# Altium integrated library Altium_library_module_kit.IntLib: 11 symbols
Pins are listed as number, name and electrical type; pins without a type are passive.

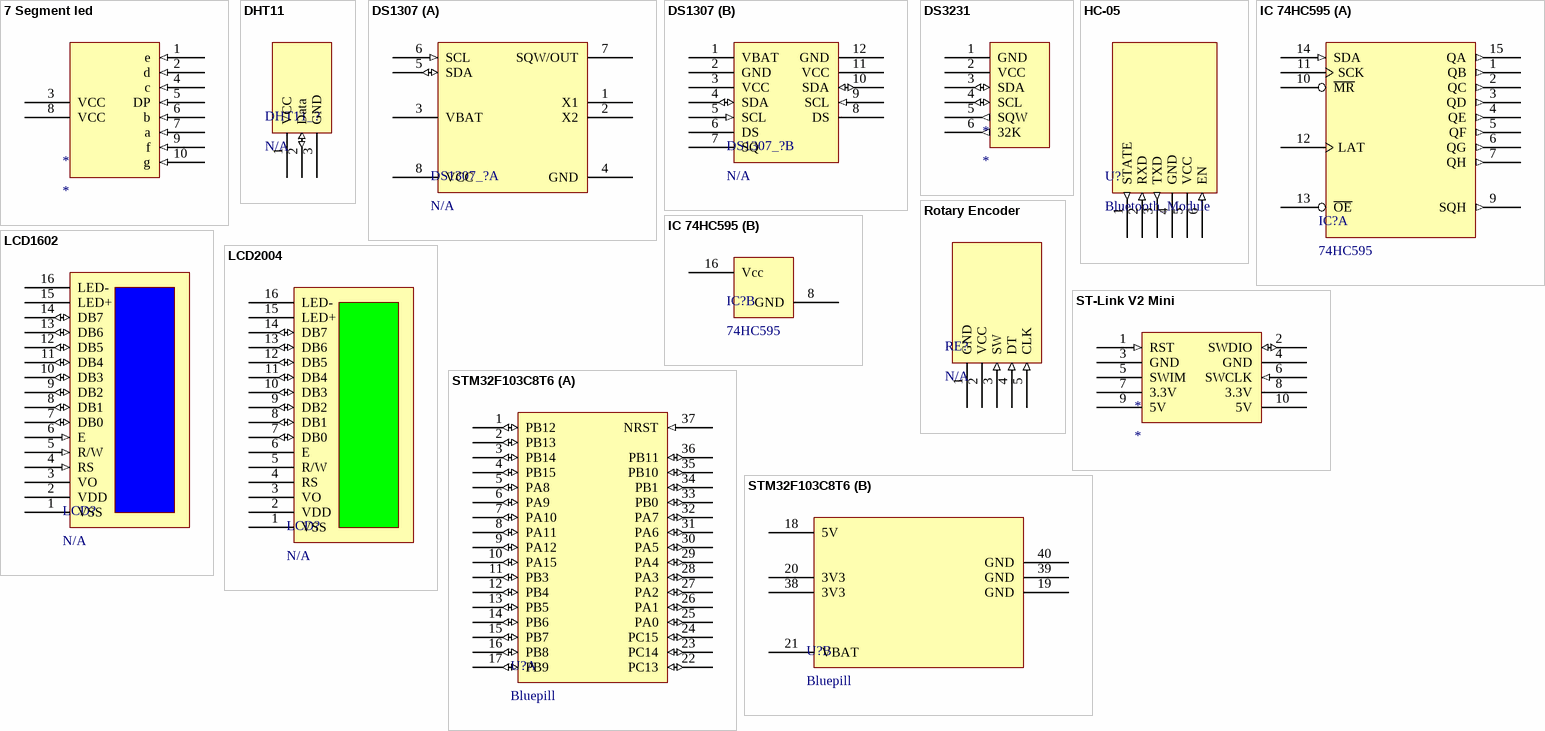
[diagram p0: symbols 7 Segment led to STM32F103C8T6]

## 7 Segment led
designator *
Manufacturer: Lumex Opto/Components Inc.; Product Status: Active; Number of Characters: 1; Digit/Alpha Size: 0.56" (14.22mm); Display Type: 7-Segment; Common Pin: Common Anode; Voltage - Forward (Vf) (Typ): 1.8V; Current - Test: 10mA; Millicandela Rating: 12mcd; Wavelength - Peak: 660nm; Power Dissipation (Max): 100mW; Base Product Number: LDS-A516; Package: Bulk; Size / Dimension: 0.748" H x 0.496" W x 0.315" D (19.00mm x 12.60mm x 8.00mm); Color: Red; Package / Case: 10-DIP (0.600", 15.24mm)
footprint 7_Segment_Led
pins: 1 e (in), 2 d (in), 3 VCC (power), 4 c (in), 5  DP (in), 6 b (in), 7 a (in), 8 VCC (power), 9 f (in), 10 g (in)

## DHT11
designator DHT11_?, comment N/A
Temperature Humidity Sensor 16bi; Manufacturer: UNIVERSAL-SOLDER Electronics Ltd; Product Status: Active; Sensor Type: Humidity, Temperature; Output Type: Digital; Output: 16b; Accuracy: ±5% RH; Voltage - Supply: 3.5V ~ 5.5V; ComponentLink1Description: Datasheet; ComponentLink1URL: https://www.mouser.com/datasheet/2/758/DHT11-Technical-Data-Sheet-Translated-Version-1143054.pdf; ComponentLink2Description: Thegioiic; ComponentLink2URL: https://www.thegioiic.com/dht11-mach-cam-bien-nhiet-do-va-do-am-den; Package: Bulk; Mounting Type: Through Hole; Package / Case: 3-SIP Module
footprint DHT11
pins: 1 VCC (power), 2 Data (io), 3 GND (power)

## DS1307
designator DS1307_?, comment N/A
IC RTC CLOCK/CALENDAR I2C 8DIP; Manufacturer: Analog Devices Inc./Maxim Integrated; Product Status: Obsolete; Memory Size: 56B; Time Format: HH:MM:SS (12/24 hr); Date Format: YY-MM-DD-dd; Interface: I²C, 2-Wire Serial; Voltage - Supply: 4.5V ~ 5.5V; Voltage - Supply, Battery: 2V ~ 3.5V; Current - Timekeeping (Max): 200µA @ 5V; Base Product Number: DS1307; Package: Tube; Type: Clock/Calendar; Features: Leap Year, NVSRAM, Square Wave Output; Operating Temperature: 0°C ~ 70°C; Mounting Type: Through Hole; Package / Case: 8-DIP (0.300", 7.62mm); Supplier Device Package: 8-PDIP; ComponentLink1Description: Datasheet; ComponentLink1URL: https://www.sparkfun.com/datasheets/Components/DS1307.pdf; ComponentLink2Description: Thegioiic; ComponentLink2URL: https://www.thegioiic.com/ds1307-ic-rtc-clock-calendar-56b-8-dip
footprint DS1307
part A pins: 1 X1 (oc), 2 X2 (oc), 3 VBAT (power), 4 GND (power), 5 SDA (io), 6 SCL (in), 7 SQW/OUT (oc), 8 VCC (power)
part B pins: 1 VBAT (power), 2 GND (power), 3 VCC (power), 4 SDA (io), 5 SCL (in), 6 DS (oc), 7 SQ (oc), 8 DS (oc), 9 SCL (in), 10 SDA (io), 11 VCC (power), 12 GND (power)

## DS3231
designator *
DS3231 Real Time Clock (RTC) Clock Timing Raspberry Pi Pico Platform Evaluation Expansion Board; Manufacturer: Analog Devices Inc./Maxim Integrated; Product Status: Active; Time Format: HH:MM:SS (12/24 hr); Date Format: YY-MM-DD-dd; Interface: I²C, 2-Wire Serial; Voltage - Supply: 2.3V ~ 5.5V; Current - Timekeeping (Max): 130µA ~ 200µA @ 3.63V ~ 5.5V; Package: Tape & Reel (TR); Type: Clock/Calendar; Features: Alarm, Leap Year, Square Wave Output; Voltage - Supply, Battery: 2.3V ~ 5.5V; Operating Temperature: -40°C ~ 85°C; Mounting Type: Surface Mount; Package / Case: 8-SOIC (0.154", 3.90mm Width); Supplier Device Package: 8-SOIC; Base Product Number: DS3231
footprint DS3231
pins: 1 GND (power), 2 VCC (power), 3 SDA (io), 4 SCL (io), 5 SQW (out), 6 32K (out)

## HC-05
designator U?, comment Bluetooth_Module
HC05 Bluetooth RF Grove Platform Evaluation Expansion Board; Manufacturer: Seeed Technology Co., Ltd; Product Status: Active; Contents: Board(s), Cable(s); Package: Bulk; Platform: Grove; Type: RF; Function: Bluetooth; Utilized IC / Part: HC05; ComponentLink1Description: Datasheet; ComponentLink1URL: https://raw.githubusercontent.com/SeeedDocument/Grove-Serial_Bluetooth_v3.0/master/res/Bluetooth_module.pdf
footprint HC05
pins: 1 STATE (out), 2 RXD (in), 3 TXD (out), 4 GND (power), 5 VCC (power), 6 EN (in)

## IC 74HC595
designator IC?, comment 74HC595
The 74HC595 is an high speed CMOS device.; Manufacturer: Texas Instruments; Product Status: Active; Logic Type: Shift Register; Output Type: Tri-State; Number of Elements: 1; Number of Bits per Element: 8; Function: Serial to Parallel, Serial; Voltage - Supply: 2V ~ 6V; Series: 74HC; Operating Temperature: -40°C ~ 125°C; Mounting Type: Through Hole; Package / Case: 16-DIP (0.300", 7.62mm); Supplier Device Package: 16-PDIP; Base Product Number: 74HC595; ComponentLink1Description: Datasheet; ComponentLink1URL: https://www.ti.com/general/docs/suppproductinfo.tsp?distId=10&gotoUrl=https%3A%2F%2Fwww.ti.com%2Flit%2Fgpn%2Fcd74hc595
footprint IC74HC595
part A pins: 1 QB (out), 2 QC (out), 3 QD (out), 4 QE (out), 5 QF (out), 6 QG (out), 7 QH (out), 9 SQH (out), 10 ~{MR} (hiz), 11 SCK (hiz), 12 LAT (oe), 13 ~{OE} (oe), 14 SDA (in), 15 QA (out)
part B pins: 8 GND (power), 16 Vcc (power)

## LCD1602
designator LCD?, comment N/A
BLUE LCD 1602 2x16 Character Mat; Manufacturer: UNIVERSAL-SOLDER Electronics Ltd; Product Status: Active; Number of Characters: 32; Display Format: 16 x 2; Character Format: 5 x 8 Dots; Display Type: STN - Super-Twisted Nematic; Character Size: 5.15mm H x 2.90mm W; Outline L x W x H: 80.00mm x 36.00mm x 11.00mm; Viewing Area: 55.70mm L x 11.00mm W; Backlight: LED - Yellow/Green; Voltage - Supply: 4.5V ~ 5.5V; Dot Size: 0.55mm W x 0.65mm H; Controller Type: HD44780; Text Color: White; Package: Bag; Operating Temperature: -20°C ~ 70°C; Background Color: Blue; ComponentLink1Description: Hshop; ComponentLink1URL: https://hshop.vn/products/lcd-text-lcd1602-xanh-lo; ComponentLink2Description: Datasheet; ComponentLink2URL: https://www.waveshare.com/datasheet/LCD_en_PDF/LCD1602.pdf
footprint LCD1602
pins: 1 VSS (power), 2 VDD (power), 3 VO (oc), 4 RS (in), 5 R/W (in), 6 E (in), 7 DB0 (io), 8 DB1 (io), 9 DB2 (io), 10 DB3 (io), 11 DB4 (io), 12 DB5 (io), 13 DB6 (io), 14 DB7 (io), 15 LED+ (power), 16 LED- (power)

## LCD2004
designator LCD?, comment N/A
20X4 CHARACTER LCD STN YG; Manufacturer: Gi Far technology Co., Ltd; Product Status: Active; Number of Characters: 80; Character Format: 5 x 8 Dots; Display Type: STN - Y/G; Display Mode: Transflective; Character Size: 4.75mm H x 2.95mm W; Outline L x W x H: 98.00mm x 60.00mm x 13.30mm; Viewing Area: 76.00mm L x 25.20mm W; Backlight: LED - Yellow/Green; Voltage - Supply: 5V; Dot Size: 0.55mm W x 0.55mm H; Interface: Parallel; Controller Type: ST7066U-0T; Text Color: Black; Background Color: Yellow/Green; Package: Tape & Box (TB); Display Format: 20 x 4; Operating Temperature: -20°C ~ 70°C; ComponentLink1Description: Datasheet; ComponentLink1URL: https://uk.beta-layout.com/download/rk/RK-10290_410.pdf; ComponentLink2Description: Hshop (Blue Backlight); ComponentLink2URL: https://hshop.vn/products/lcd-text-lcd2004-xanh-duong; ComponentLink3Description: Hshop (Green Backlight); ComponentLink3URL: https://hshop.vn/products/lcd-text-lcd2004-xanh-lo
footprint LCD2004
pins: 1 VSS (power), 2 VDD (power), 3 VO (oc), 4 RS (oc), 5 R/W (oc), 6 E (oe), 7 DB0 (io), 8 DB1 (io), 9 DB2 (io), 10 DB3 (io), 11 DB4 (io), 12 DB5 (io), 13 DB6 (io), 14 DB7 (io), 15 LED+ (power), 16 LED- (power)

## Rotary Encoder
designator RE?, comment N/A
ROTARY ENCODER MECHANICAL 16PPR; Manufacturer: CUI Devices; Product Status: Obsolete; Output Type: Quadrature (Incremental); Pulses per Revolution: 16; Voltage - Supply: 5V; Actuator Type: 6mm Dia Flatted End; Detent: Yes; Rotational Life (Cycles Min): 500K; Series: RME12; Encoder Type: Mechanical; Built in Switch: Yes; Mounting Type: Panel, PCB Through Hole; Orientation: Vertical; Termination Style: PC Pin; ComponentLink1Description: Hshop; ComponentLink1URL: https://hshop.vn/products/mach-volume-xoay-encoder; ComponentLink2Description: Datasheet; ComponentLink2URL: http://handsontec.com/dataspecs/module/Rotary%20Encoder.pdf
footprint Rotary_Encoder
pins: 1 GND (power), 2 VCC (power), 3 SW (in), 4 DT (in), 5 CLK (in)

## ST-Link V2 Mini
designator *
pins: 1 RST (in), 2 SWDIO (io), 3 GND (power), 4 GND (power), 5 SWIM (oc), 6 SWCLK (in), 7 3.3V (power), 8 3.3V (power), 9 5V (power), 10 5V (power)

## STM32F103C8T6
designator U?, comment Bluepill
STM32F103C8T6, mbed-Enabled Development Bluepill STM32F1 ARM® Cortex®-M3 MCU 32-Bit Embedded Evaluation Board; Manufacturer: STMicroelectronics; Core Size: 32-Bit Single-Core; Speed: 72MHz; Connectivity: CANbus, I²C, IrDA, LINbus, SPI, UART/USART, USB; Peripherals: DMA, Motor Control PWM, PDR, POR, PVD, PWM, Temp Sensor, WDT; Number of I/O: 37; Program Memory Size: 64KB (64K x 8); Program Memory Type: FLASH; RAM Size: 20K x 8; Voltage - Supply (Vcc/Vdd): 2V ~ 3.6V; Data Converters: A/D 10x12b; Oscillator Type: Internal; Series: STM32F1; Core Processor: ARM® Cortex®-M3; Operating Temperature: 40°C ~ 85°C (TA); Mounting Type: Surface Mount; Package / Case: 48-LQFP; Base Product Number: STM32F103; ComponentLink1Description: MPU; ComponentLink1URL: https://www.thegioiic.com/stm32f103c8t6; ComponentLink2Description: Kit Bluepill; ComponentLink2URL: https://hshop.vn/products/kit-ra-chon-stm32f103c8t6; ComponentLink3Description: Datasheet; ComponentLink3URL: https://www.st.com/resource/en/datasheet/cd00161566.pdf
footprint STM32F103C8T6
part A pins: 1 PB12 (io), 2 PB13 (io), 3 PB14 (io), 4 PB15 (io), 5 PA8 (io), 6 PA9 (io), 7 PA10 (io), 8 PA11 (io), 9 PA12 (io), 10 PA15 (io), 11 PB3 (io), 12 PB4 (io), 13 PB5 (io), 14 PB6 (io), 15 PB7 (io), 16 PB8 (io), 17 PB9 (io), 22 PC13 (io), 23 PC14 (io), 24 PC15 (io), 25 PA0 (io), 26 PA1 (io), 27 PA2 (io), 28 PA3 (io), 29 PA4 (io), 30 PA5 (io), 31 PA6 (io), 32 PA7 (io), 33 PB0 (io), 34 PB1 (io), 35 PB10 (io), 36 PB11 (io), 37 NRST (in)
part B pins: 18 5V (power), 19 GND (power), 20 3V3 (power), 21 VBAT (power), 38 3V3 (power), 39 GND (power), 40 GND (power)